# Altium footprint library pcb_v1.PcbLib: 39 footprints (part 2 of 3)
Each footprint in its own frame and in the unit in brackets; x right, y up, seen from the top. Pads: shape width x height; smd on the part's side, far side on the other; paste and mask are expansions set on the pad; w line width, h text height; cw(c..) or ccw(c..) is an arc to the next point about the centre after c.
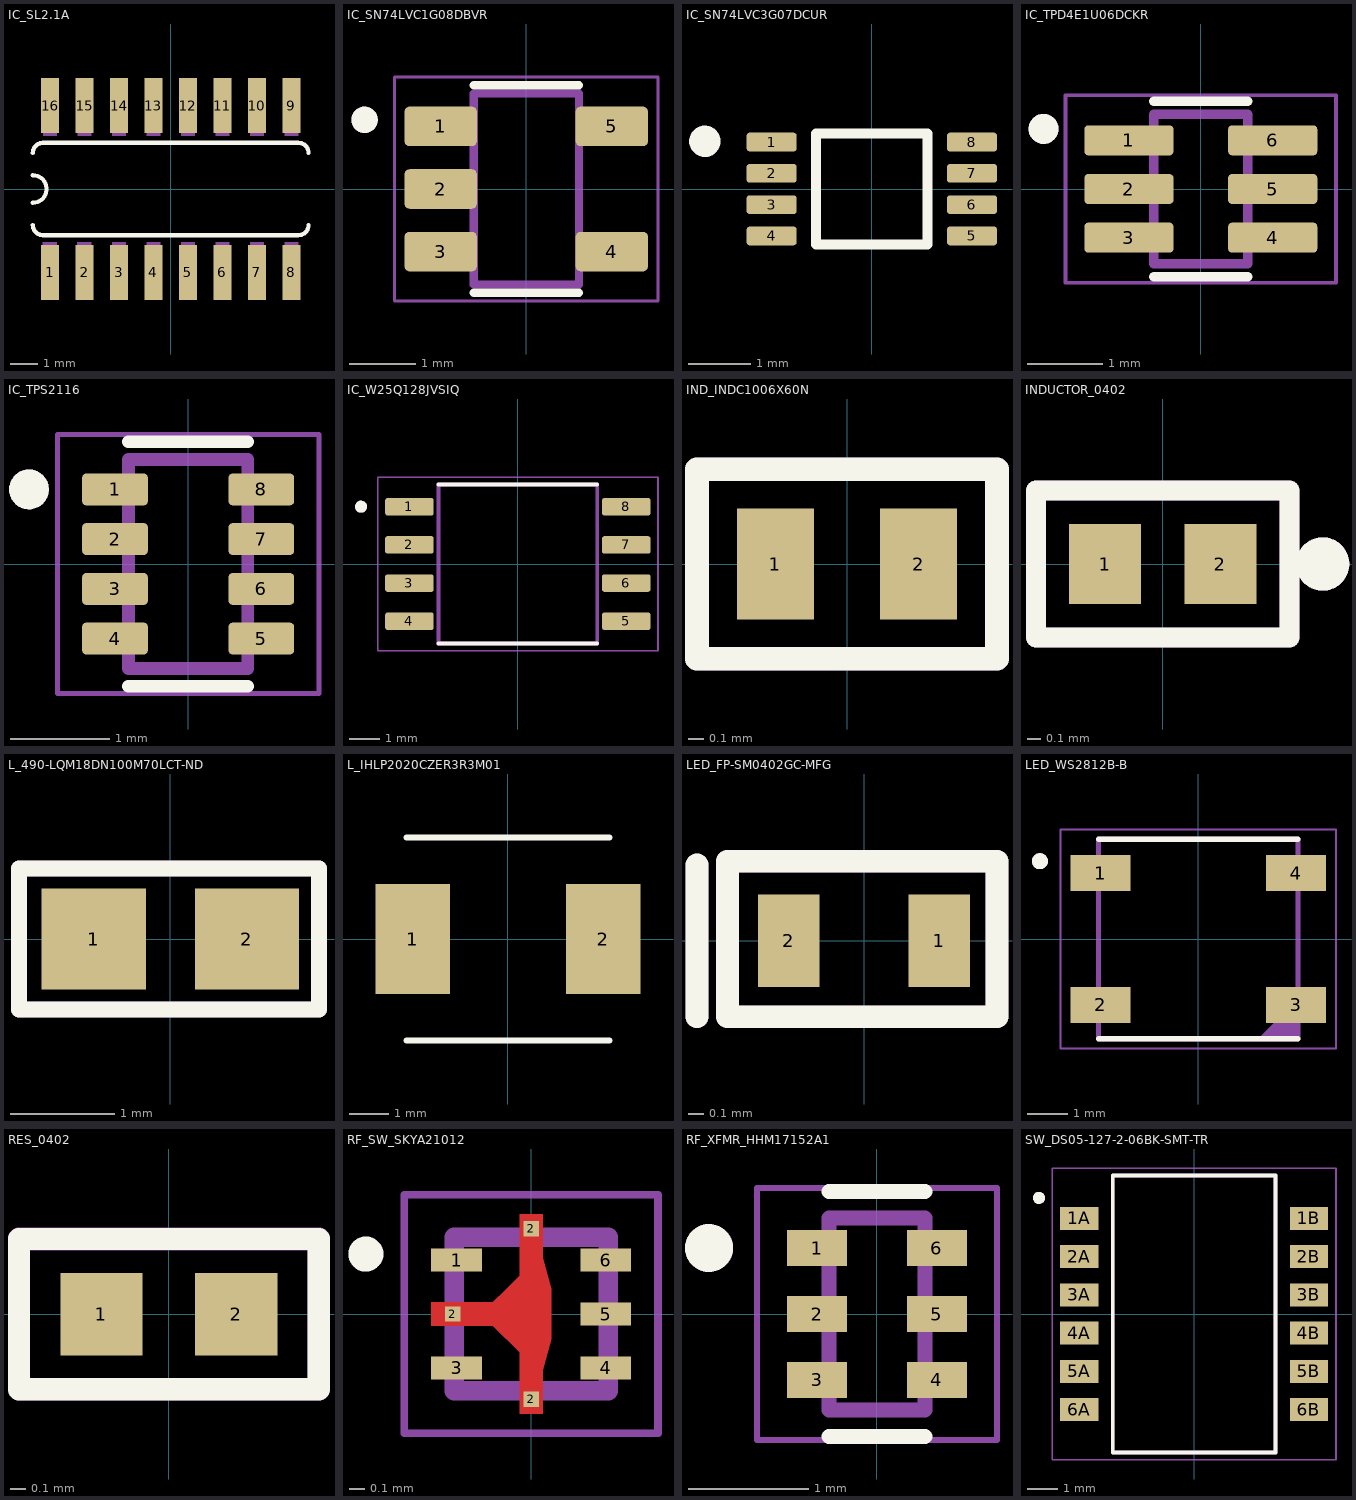
[diagram p1: the footprints below, top view; thin cyan lines are the x and y axes]

## IC_SL2.1A [mil]
pads (16):
  rect 26x80 smd: 1(-175,-121) 2(-125,-121) 3(-75,-121) 4(-25,-121) 5(25,-121) 6(75,-121) 7(125,-121) 8(175,-121) 9(175,121) 10(125,121) 11(75,121) 12(25,121) 13(-25,121) 14(-75,121) 15(-125,121) 16(-175,121)
Top Overlay:
  lines w6: -200,-52 ccw(c-185,-52) -185,-67 185,-67 ccw(c185,-52) 200,-52 ; -200,-20 ccw(c-200,0) -200,20 ; -200,52 cw(c-185,52) -185,67 185,67 cw(c185,52) 200,52
Mechanical 13:
  region: 185,77.02 165.05,77.02 165.05,122 185,122
  region: 135,77.02 115.02,77.02 115.02,122 135,122
  region: 85,77.12 65.1,77.12 65.1,122 85,122
  region: 35,77.14 15.03,77.14 15.03,122 35,122
  region: 185,-122.08 165.11,-122.08 165.11,-77 185,-77
  region: 135,-122.14 115.13,-122.14 115.13,-77 135,-77
  region: 85,-122.16 65.08,-122.16 65.08,-77 85,-77
  region: 35,-122.06 15.01,-122.06 15.01,-77 35,-77
  region: -165,77.01 -185.02,77.01 -185.02,122 -165,122
  region: -115,77.03 -135.05,77.03 -135.05,122 -115,122
  region: -65,77.09 -85.1,77.09 -85.1,122 -65,122
  region: -15,-122.14 -35.04,-122.14 -35.04,-77 -15,-77
  region: -65,-122.55 -85.07,-122.55 -85.07,-77.45 -65,-77.45
  region: -115,-122.16 -135.18,-122.16 -135.18,-77 -115,-77
  region: -165,-122.18 -185.27,-122.18 -185.27,-77 -165,-77
  region: -15,77 -35,77 -35,122 -15,122
3D body "CircuitWorks-SO-16.step": height 57, standoff 0, extent -196.5,-115 196.5,117.49

## IC_SN74LVC1G08DBVR [mm]
pads (5):
  rrect25% 1.1x0.6 smd: 1(-1.3,0.95) 2(-1.3,0) 3(-1.3,-0.95) 4(1.3,-0.95) 5(1.3,0.95)
Top Overlay:
  circle w0.2: c-2.455,1.05 r0.1
  lines w0.127: -0.8,-1.575 0.8,-1.575 ; -0.8,1.575 0.8,1.575
Mechanical 13:
  circle w0.2: c-2.455,1.05 r0.1
  lines w0.127: -0.8,-1.45 0.8,-1.45 0.8,1.45 -0.8,1.45 -0.8,-1.45
Mechanical 15:
  lines w0.05: -2,-1.7 -2,1.7 2,1.7 2,-1.7 -2,-1.7
3D body "step_temp.STEP": height 1.46, standoff 0.01, extent -1.4,-1.45 1.4,1.45

## IC_SN74LVC3G07DCUR [mm]
pads (8):
  rrect33% 0.8x0.3 smd: 1(-1.6,0.75) 2(-1.6,0.25) 3(-1.6,-0.25) 4(-1.6,-0.75) 5(1.6,-0.75) 6(1.6,-0.25) 7(1.6,0.25) 8(1.6,0.75)
Top Overlay:
  circle w0.25: c-2.667,0.762 r0.125
  lines w0.16: -0.889,-0.889 0.889,-0.889 0.889,0.889 -0.889,0.889 -0.889,-0.889
Top 3D Body:
  text ".Designator" at -1.016,-0.127 h0.5
3D body "DCU0008A.stp": height 0.9, standoff 0, extent -1.561,-1 1.561,1

## IC_TPD4E1U06DCKR [mm]
pads (6):
  rrect25% 1.19x0.4 smd: 1(-0.96,0.65) 2(-0.96,0) 3(-0.96,-0.65) 4(0.96,-0.65) 5(0.96,0) 6(0.96,0.65)
Top Overlay:
  circle w0.2: c-2.1,0.802 r0.1
  lines w0.127: -0.625,-1.17 0.625,-1.17 ; -0.625,1.17 0.625,1.17
Mechanical 13:
  circle w0.2: c-2.1,0.802 r0.1
  lines w0.127: -0.625,-1 -0.625,1 0.625,1 0.625,-1 -0.625,-1
Mechanical 15:
  lines w0.05: -1.805,-1.25 -1.805,1.25 1.805,1.25 1.805,-1.25 -1.805,-1.25
3D body "step_temp.STEP": height 1.1, standoff 0, extent -1.05,-1 1.05,1

## IC_TPS2116 [mm]
pads (8):
  rrect25% 0.66x0.32 smd: 1(-0.735,0.75) 2(-0.735,0.25) 3(-0.735,-0.25) 4(-0.735,-0.75) 5(0.735,-0.75) 6(0.735,-0.25) 7(0.735,0.25) 8(0.735,0.75)
Top Overlay:
  circle w0.2: c-1.6,0.75 r0.1
  lines w0.127: -0.6,-1.23 0.6,-1.23 ; -0.6,1.23 0.6,1.23
Mechanical 13:
  circle w0.2: c-1.6,0.75 r0.1
  lines w0.127: -0.6,-1.05 0.6,-1.05 0.6,1.05 -0.6,1.05 -0.6,-1.05
Mechanical 15:
  lines w0.05: -1.315,-1.3 1.315,-1.3 1.315,1.3 -1.315,1.3 -1.315,-1.3
3D body "DRL0008A.stp": height 0.6, standoff 0, extent -0.8,-1.05 0.8,1.05

## IC_W25Q128JVSIQ [mm]
pads (8):
  rrect25% 1.61x0.58 smd: 1(-3.605,1.905) 2(-3.605,0.635) 3(-3.605,-0.635) 4(-3.605,-1.905) 5(3.605,-1.905) 6(3.605,-0.635) 7(3.605,0.635) 8(3.605,1.905)
Top Overlay:
  circle w0.2: c-5.215,1.905 r0.1
  lines w0.127: -2.64,-2.64 2.64,-2.64 ; -2.64,2.64 2.64,2.64
Mechanical 13:
  circle w0.2: c-5.215,1.905 r0.1
  lines w0.127: -2.64,-2.64 2.64,-2.64 2.64,2.64 -2.64,2.64 -2.64,-2.64
Mechanical 15:
  lines w0.05: -4.66,-2.89 4.66,-2.89 4.66,2.89 -4.66,2.89 -4.66,-2.89
3D body "W25Q128JVSIQ.STEP": height 2.17, standoff -0.54, extent -4.092,-2.64 3.94,2.64

## IND_INDC1006X60N [mm]
pads (2):
  rect 0.49x0.7 smd: 1(-0.453,0) 2(0.453,0)
Top Overlay:
  lines w0.15: -0.95,-0.6 0.95,-0.6 0.95,0.6 -0.95,0.6 -0.95,-0.6
Mechanical 13:
  lines w0.15: -0.95,-0.6 0.95,-0.6 0.95,0.6 -0.95,0.6 -0.95,-0.6
Mechanical 15:
  lines w0.15: -0.95,-0.6 0.95,-0.6 0.95,0.6 -0.95,0.6 -0.95,-0.6
3D body "step_temp.STEP": height 0.6, standoff 0, extent -0.5,-0.3 0.5,0.3

## INDUCTOR_0402 [mm]
pads (2):
  rect 0.54x0.6 smd: 1(-0.432,0) 2(0.432,0)
Top Overlay:
  circle w0.2: c1.2,0 r0.1
  lines w0.15: -0.95,-0.55 0.95,-0.55 0.95,0.55 -0.95,0.55 -0.95,-0.55
Mechanical 13:
  circle w0.2: c1.2,0 r0.1
  lines w0.15: -0.95,-0.55 0.95,-0.55 0.95,0.55 -0.95,0.55 -0.95,-0.55
Mechanical 15:
  circle w0.2: c1.2,0 r0.1
  lines w0.15: -0.95,-0.55 0.95,-0.55 0.95,0.55 -0.95,0.55 -0.95,-0.55
3D body "step_temp.STEP": height 0.55, standoff 0, extent -0.5,-0.25 0.5,0.25

## L_490-LQM18DN100M70LCT-ND [mm]
pads (2):
  rect 1x0.97 smd: 1(-0.735,0) 2(0.735,0)
Top Overlay:
  lines w0.15: -1.45,-0.675 1.425,-0.675 1.425,0.675 -1.45,0.675 -1.45,-0.675
Mechanical 13:
  lines w0.15: -1.45,-0.675 1.425,-0.675 1.425,0.675 -1.45,0.675 -1.45,-0.675
Mechanical 15:
  lines w0.15: -1.45,-0.675 1.425,-0.675 1.425,0.675 -1.45,0.675 -1.45,-0.675
3D body "step_temp.STEP": height 0.95, standoff 0, extent -0.8,-0.4 0.8,0.4

## L_IHLP2020CZER3R3M01 [mm]
pads (2):
  rect 1.905x2.79 smd: 1(-2.425,0) 2(2.426,0)
Top Overlay:
  lines w0.15: -2.59,-2.59 2.59,-2.59 ; -2.59,2.59 2.59,2.59
3D body: height 3, standoff 0, extent -2.6,-2.6 2.6,2.6

## LED_FP-SM0402GC-MFG [mil]
pads (2):
  rect 16x24 smd paste+0 mask+0: 1(19.5,0) 2(-19.5,0)
Top Overlay:
  lines w5.91: -43.31,-19.68 -43.31,19.69 ; -35.43,-19.68 34.45,-19.68 34.45,20.67 -35.43,20.67 -35.43,-19.68
Top 3D Body:
  lines w5.91: -43.31,-19.68 -43.31,19.69
Top Courtyard:
  lines w5.91: -43.31,-19.68 -43.31,19.69 ; -35.43,-19.68 -35.43,20.67 34.45,20.67 34.45,-19.68 -35.43,-19.68
Mechanical 13:
  lines w5.91: -35.43,-19.68 -35.43,20.67 34.45,20.67 34.45,-19.68 -35.43,-19.68
  text ".Designator" at 0,-0.02 h39.37
Mechanical 15:
  lines w5.91: -35.43,-19.68 -35.43,20.67 34.45,20.67 34.45,-19.68 -35.43,-19.68
3D body "Diode_Bivar_SM0402GC_eec.STEP": height 28.08, standoff 0, extent -19.68,-9.84 19.68,9.84

## LED_WS2812B-B [mm]
pads (4):
  rect 1.5x0.9 smd: 1(-2.45,1.65) 2(-2.45,-1.65) 3(2.45,-1.65) 4(2.45,1.65)
Top Overlay:
  circle w0.2: c-3.97,1.95 r0.1
  lines w0.127: -2.5,-2.5 2.5,-2.5 ; -2.5,2.5 2.5,2.5
Mechanical 13:
  circle w0.2: c-3.97,1.95 r0.1
  region: 2.5,-2.5 1.5,-2.5 2.5,-1.5
  lines w0.127: -2.5,-2.5 -2.5,2.5 2.5,2.5 2.5,-2.5 -2.5,-2.5
Mechanical 15:
  lines w0.05: -3.45,-2.75 3.45,-2.75 3.45,2.75 -3.45,2.75 -3.45,-2.75
3D body "WS2812B-B--3DModel-STEP-56544.STEP": height 1.63, standoff 0.01, extent -2.7,-2.5 2.7,2.5

## RES_0402 [mm]
pads (2):
  rect 0.55x0.55 smd: 1(-0.45,0) 2(0.45,0)
Top Overlay:
  lines w0.15: -1,-0.5 1,-0.5 1,0.5 -1,0.5 -1,-0.5
Mechanical 13:
  lines w0.15: -1,-0.5 1,-0.5 1,0.5 -1,0.5 -1,-0.5
Mechanical 15:
  lines w0.15: -1,-0.5 1,-0.5 1,0.5 -1,0.5 -1,-0.5
3D body: height 0.4, standoff 0, extent 0.325,-0.275 0.525,0.275
3D body: height 0.4, standoff 0, extent -0.525,-0.275 -0.325,0.275
3D body: height 0.4, standoff 0, extent -0.325,-0.275 0.325,0.275

## RF_SW_SKYA21012 [mm]
pads (8):
  rect 0.33x0.15 smd: 1(-0.485,0.35) 3(-0.485,-0.35) 4(0.485,-0.35) 5(0.485,0) 6(0.485,0.35)
  rect 0.1x0.1 smd paste-1 mask+0: 2(-0.51,0) 2(0,-0.555) 2(0,0.555)
Top Layer:
  region: -0.25,-0.075 -0.65,-0.075 -0.65,0.075 -0.25,0.075
  region: 0.13,0.165 0.13,-0.165 0.075,-0.365 -0.075,-0.365 -0.075,-0.25 -0.25,-0.075 -0.25,0.075 -0.162,0.162 -0.075,0.25 0.075,0.365
  region: 0.075,-0.65 -0.075,-0.65 -0.075,-0.365 0.075,-0.365
  region: 0.075,0.365 -0.075,0.25 -0.075,0.65 0.075,0.65
Top Overlay:
  circle w0.127: c-1.075,0.39 r0.051
Top Paste:
  region: -0.25,-0.075 -0.65,-0.075 -0.65,0.075 -0.25,0.075
  region: 0.13,0.165 0.13,-0.165 0.075,-0.365 -0.075,-0.365 -0.075,-0.25 -0.25,-0.075 -0.25,0.075 -0.162,0.162 -0.075,0.25 0.075,0.365
  region: 0.075,-0.65 -0.075,-0.65 -0.075,-0.365 0.075,-0.365
  region: 0.075,0.365 -0.075,0.25 -0.075,0.65 0.075,0.65
Top Solder:
  region: 0.1,0.375 0.15,0.175 0.15,-0.175 0.1,-0.375 0.1,-0.675 -0.1,-0.675 -0.1,-0.25 -0.25,-0.1 -0.675,-0.1 -0.675,0.1 -0.25,0.1 -0.1,0.25 -0.1,0.675 0.1,0.675
Mechanical 13:
  lines w0.127: -0.5,-0.5 -0.5,0.5 0.5,0.5 0.5,-0.5 -0.5,-0.5
Mechanical 15:
  lines w0.05: -0.825,-0.775 -0.825,0.775 0.825,0.775 0.825,-0.775 -0.825,-0.775
3D body "SKY13323-378LF.STEP": height 0.51, standoff 0.01, extent -0.5,-0.5 0.5,0.5

## RF_XFMR_HHM17152A1 [mm]
pads (6):
  rect 0.5x0.3 smd: 1(-0.5,0.55) 2(-0.5,0) 3(-0.5,-0.55) 4(0.5,-0.55) 5(0.5,0) 6(0.5,0.55)
Top Overlay:
  circle w0.2: c-1.4,0.55 r0.1
  lines w0.127: -0.4,-1.02 0.4,-1.02 ; -0.4,1.02 0.4,1.02
Mechanical 13:
  circle w0.2: c-1.4,0.55 r0.1
  lines w0.127: -0.4,-0.8 -0.4,0.8 0.4,0.8 0.4,-0.8 -0.4,-0.8
Mechanical 15:
  lines w0.05: -1,-1.05 -1,1.05 1,1.05 1,-1.05 -1,-1.05
3D body: height 0.6, standoff 0, extent -0.4,-0.8 0.4,0.8

## SW_DS05-127-2-06BK-SMT-TR [mm]
pads (12):
  rect 1.27x0.76 smd: 1A(-3.81,3.175) 1B(3.81,3.175) 2A(-3.81,1.905) 2B(3.81,1.905) 3A(-3.81,0.635) 3B(3.81,0.635) 4A(-3.81,-0.635) 4B(3.81,-0.635) 5A(-3.81,-1.905) 5B(3.81,-1.905) 6A(-3.81,-3.175) 6B(3.81,-3.175)
Top Overlay:
  circle w0.2: c-5.15,3.855 r0.1
  lines w0.127: -2.7,-4.595 -2.7,4.595 2.7,4.595 2.7,-4.595 -2.7,-4.595
Mechanical 13:
  circle w0.2: c-5.15,3.855 r0.1
  lines w0.127: -2.7,-4.595 2.7,-4.595 2.7,4.595 -2.7,4.595 -2.7,-4.595
Mechanical 15:
  lines w0.05: -4.71,-4.845 -4.71,4.845 4.71,4.845 4.71,-4.845 -4.71,-4.845
3D body "CUI_DEVICES_DS05-127-2-06BK-SMT-TR.step": height 2.4, standoff 0, extent -4.318,-4.595 3.982,4.595